# Altium footprint library PcbLib1.PcbLib: 38 footprints (part 1 of 3)
Each footprint in its own frame and in the unit in brackets; x right, y up, seen from the top. Pads: shape width x height; smd on the part's side, far side on the other; paste and mask are expansions set on the pad; w line width, h text height; cw(c..) or ccw(c..) is an arc to the next point about the centre after c.
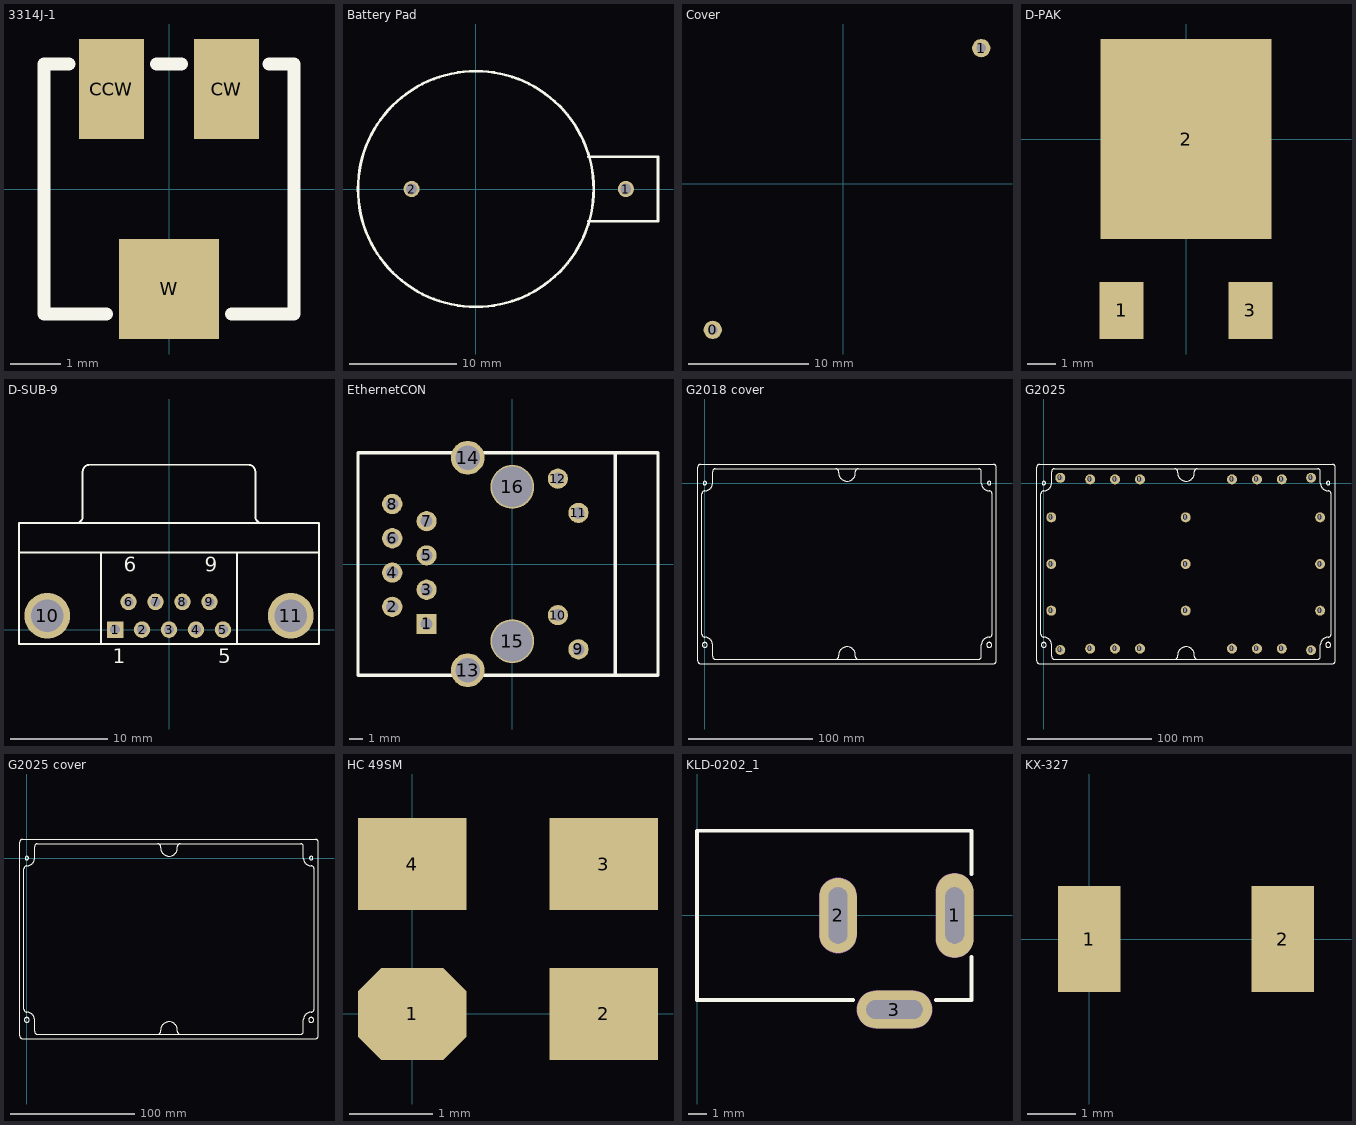
[diagram p0: the footprints below, top view; thin cyan lines are the x and y axes]

## 3314J-1 [mm] "Trimming Potentiometer"
pads (3):
  rect 1.3x2 smd: CCW(-1.15,2) CW(1.15,2)
  rect 2x2 smd: W(0,-2)
Top Overlay:
  lines w0.254: -2,2.5 -2.5,2.5 -2.5,-2.5 -1.25,-2.5 ; -0.25,2.5 0.25,2.5 ; 1.25,-2.5 2.5,-2.5 2.5,2.5 2,2.5
3D body: height 2.55, standoff 0, extent -1.2,-1.198 1.191,1.198
3D body: height 2.5, standoff 0.3, extent -2.225,-2.25 2.275,2.25

## Battery Pad [mm]
pads (2):
  round 1.5 hole 1: 1(14,0) 2(-6,0)
Top Overlay:
  circle w0.254: c0,0 r11
  lines w0.254: 10.5,-3 17,-3 17,3 10.5,3
3D body: height 6, standoff 5, extent -4,-1 15,1
3D body: height 4, standoff 2, extent -10.913,-10.978 11,10.978
3D body: height 5, standoff 0, extent 10,-3 17,3
3D body: height 5.5, standoff 4, extent -9.961,-9.961 9.961,10

## Cover [mil]
pads (2):
  round 60 hole 30: 0(-429.13,-480.31) 1(452.76,444.88)
3D body: height 181.1, standoff 177.17, extent -625.98,-484.25 645.67,452.76
3D body: height 165.35, standoff 3.94, extent -625.98,-460.63 -614.17,425.2
3D body: height 137.8, standoff 3.94, extent 633.86,-460.63 645.67,425.2
3D body: height 165.35, standoff 3.94, extent -625.98,438.98 645.67,450.79
3D body: height 165.35, standoff 3.94, extent -625.98,-486.22 645.67,-474.41

## CPU_Unit [mil]
3D body: height 669.29, standoff 259.84, extent 0,0 100,600
3D body: height 669.29, standoff 259.84, extent 0,4000 100,5039.37
3D body: height 2755.91, standoff 669.29, extent 0,0 100,5039.37

## D-PAK [mm]
pads (3):
  rect 1.54x2 smd: 1(-2.25,-6) 3(2.25,-6)
  rect 6x7 smd: 2(0,0)
3D body: height 2.38, standoff 0, extent -3,-3.5 3,2.5

## D-SUB-9 [mm] "Connector"
pads (11):
  rect 1.7x1.7 hole 1: 1(-5.54,0)
  round 1.7 hole 1: 2(-2.77,0) 3(0,0) 4(2.77,0) 5(5.54,0) 6(-4.155,2.84) 7(-1.385,2.84) 8(1.385,2.84) 9(4.155,2.84)
  round 4.7 hole 3.3: 10(-12.495,1.42) 11(12.495,1.42)
Top Overlay:
  lines w0.2: -15.4,7.92 15.4,7.92 ; -9.56,10.925 ccw(c-9.56,11.62) -8.865,11.62 -8.865,16.22 ; -8.86,16.225 cw(c-8.165,16.225) -8.165,16.92 8.165,16.92 cw(c8.165,16.225) 8.86,16.225 ; -7,-1.48 -7,7.92 ; 7,-1.48 7,7.92 ; 8.865,16.22 8.865,11.62 ccw(c9.56,11.62) 9.56,10.925 ; -15.4,-1.48 -15.4,10.92 15.4,10.92 15.4,-1.48 -15.4,-1.48
  text "1" at -5.79,-3.455 h1.5
  text "5" at 5.04,-3.455 h1.5
  text "9" at 3.655,5.945 h1.5
  text "6" at -4.655,5.945 h1.5
3D body: height 4.94, standoff 1.4, extent 10.926,6.858 14.474,17.018
3D body: height 4.94, standoff 1.4, extent -14.217,6.858 -10.668,17.018
3D body: height 5.06, standoff 1.27, extent 5.087,10.922 8.889,17.018
3D body: height 5.06, standoff 1.27, extent -8.883,10.922 -5.081,17.018
3D body: height 5.08, standoff 1.27, extent -6.858,10.922 6.988,17.018
3D body: height 1.4, standoff 0.1, extent 9.906,-1.011 14.966,4.059
3D body: height 1.4, standoff 0.1, extent -14.986,-1.011 -9.926,4.059
3D body: height 6.35, standoff 0.13, extent -15.494,7.874 15.494,10.922
3D body: height 1.27, standoff 0.13, extent -15.494,-1.524 15.494,7.874
3D body: height 6.35, standoff 1.27, extent -7.112,-1.524 7.112,7.874

## Driver [mil]
3D body: height 669.29, standoff 259.84, extent 0,0 100,900
3D body: height 669.29, standoff 259.84, extent 0,2500 100,3400
3D body: height 2755.91, standoff 669.29, extent 0,0 100,3400

## EthernetCON [mm] "Ethernet connector w/two LEDs"
pads (16):
  rect 1.5x1.5 hole 0.9: 1(-6.35,-4.445)
  round 1.5 hole 0.9: 2(-8.89,-3.175) 3(-6.35,-1.905) 4(-8.89,-0.635) 5(-6.35,0.635) 6(-8.89,1.905) 7(-6.35,3.175) 8(-8.89,4.445) 9(4.902,-6.325) 10(3.378,-3.785) 11(4.902,3.785) 12(3.378,6.325)
  round 2.5 hole 1.8: 13(-3.302,-7.874) 14(-3.302,7.874)
  round 3.25 hole 3 unplated: 15(0,-5.715) 16(0,5.715)
Top Overlay:
  lines w0.254: 7.62,-8.255 7.62,8.255 ; -11.43,-8.255 -11.43,8.255 10.795,8.255 10.795,-8.255 -11.43,-8.255
3D body: height 13.97, standoff 0.25, extent -11.4,-8.255 10.83,-7
3D body: height 2.25, standoff 0.25, extent 2.54,-8.255 10.88,-2.5
3D body: height 13.97, standoff 11.97, extent -11.43,-8.255 10.83,8.255
3D body: height 2.25, standoff 0.25, extent 2.54,2.54 10.795,8.255
3D body: height 13.97, standoff 0.25, extent -11.43,-8.255 -10.033,8.255
3D body: height 1.25, standoff 0.5, extent 5.5,-6.75 11,-3.25
3D body: height 1.25, standoff 0.5, extent 5.5,3.25 11,6.75
3D body: height 13.97, standoff 0.25, extent -11.43,7 10.8,8.255
3D body: height 1.25, standoff 0.25, extent -10.16,-6.985 10.541,6.985

## G2018 cover [mil]
Top Overlay:
  circle w10: c0,0 r55.68
  circle w10: c0,-5118.11 r78.74
  circle w10: c8996.06,-5118.11 r78.74
  circle w10: c8996.06,0 r55.68
  lines w19.68: 4143.7,-5570.87 ccw(c4143.7,-5482.28) 4232.28,-5482.28 ; 4143.7,452.76 cw(c4143.7,364.17) 4232.28,364.17 ; 4234.25,-5482.28 4234.25,-5442.91 cw(c4500,-5442.91) 4765.75,-5442.91 4765.75,-5482.28 ; 4234.25,324.8 ccw(c4500,324.8) 4765.75,324.8 ; 4234.25,326.77 4234.25,364.17 ; 4763.78,-5482.28 ccw(c4852.36,-5482.28) 4852.36,-5570.87 ; 4763.78,318.9 4763.78,364.17 cw(c4852.36,364.17) 4852.36,452.76 ; -226.38,-5620.08 ccw(c-137.8,-5620.08) -137.8,-5708.66 9133.86,-5708.66 ccw(c9133.86,-5620.08) 9222.44,-5620.08 9222.44,501.97 ccw(c9133.86,501.97) 9133.86,590.55 -137.8,590.55 ccw(c-137.8,501.97) -226.38,501.97 -226.38,-5620.08 ; -88.58,-4783.46 ccw(c0,-4783.46) 0,-4872.05 cw(c0,-5118.11) 246.06,-5118.11 246.06,-5482.28 ccw(c334.65,-5482.28) 334.65,-5570.87 8661.42,-5570.87 ccw(c8661.42,-5482.28) 8750,-5482.28 8750,-5118.11 cw(c8996.06,-5118.11) 8996.06,-4872.05 ccw(c8996.06,-4783.46) 9084.65,-4783.46 9084.65,-334.65 ccw(c8996.06,-334.65) 8996.06,-246.06 cw(c8996.06,0) 8750,0 8750,364.17 ccw(c8661.42,364.17) 8661.42,452.76 334.65,452.76 ccw(c334.65,364.17) 246.06,364.17 246.06,0 cw(c0,0) 0,-246.06 ccw(c0,-334.65) -88.58,-334.65 -88.58,-4783.46
3D body: height 3188.98, standoff 3031.5, extent -224.41,-5708.66 9224.41,590.55
3D body: height 3031.5, standoff 2637.8, extent -224.41,452.76 9220.47,590.55
3D body: height 3031.5, standoff 2637.8, extent -224.41,-5708.66 9220.47,-5570.87
3D body: height 3070.87, standoff 2637.8, extent 4234.38,60.1 4763.78,590.55
3D body: height 3070.87, standoff 2637.8, extent 4236.22,-5708.66 4765.62,-5178.21
3D body: height 3070.87, standoff 2637.8, extent -235.25,-5363.2 254.94,-4872.05
3D body: height 3070.87, standoff 2637.8, extent -225.45,-246.06 245.13,225.45
3D body: height 3070.87, standoff 2637.8, extent 8734.22,-266.75 9224.41,224.41
3D body: height 3070.87, standoff 2637.8, extent 8734.22,-5333.67 9224.41,-4842.52
3D body: height 3031.5, standoff 2637.8, extent 9086.61,-5570.87 9220.47,452.76
3D body: height 3031.5, standoff 2637.8, extent -224.41,-5570.87 -90.55,452.76
3D body: height 3031.5, standoff 2637.8, extent -108.27,-39.37 246.06,452.76
3D body: height 3031.5, standoff 2637.8, extent 8732.28,-39.37 9086.61,452.76
3D body: height 3031.5, standoff 2637.8, extent 8732.28,-5570.87 9086.61,-5078.74
3D body: height 3031.5, standoff 2637.8, extent -98.43,-5570.87 255.91,-5078.74
3D body: height 3031.5, standoff 2637.8, extent 4236.22,-5570.87 4765.62,-5443.44
3D body: height 3031.5, standoff 2637.8, extent 4230.44,321.39 4759.84,448.82
3D body: height 3188.98, standoff 3031.5, extent -224.41,-5708.66 9224.41,590.55

## G2025 [mm]
pads (25):
  round 8 hole 4: 0(6,-102.5) 0(6,-65) 0(6,-27.5) 0(13.25,-134) 0(13.25,4.25) 0(37.25,-133) 0(37.25,3) 0(57.25,-133) 0(57.25,3) 0(77.25,-133) 0(77.25,3) 0(114,-102.5) 0(114,-65) 0(114,-27.5) 0(151.25,-133) 0(151.25,3) 0(171.25,-133) 0(171.25,3) 0(191.25,-133) 0(191.25,3) 0(214.75,-134.25) 0(214.75,4.25) 0(222,-102.5) 0(222,-65) 0(222,-27.5)
Top Overlay:
  circle w0.254: c0,0 r1.414
  circle w0.254: c0,-130 r2
  circle w0.254: c228.5,-130 r2
  circle w0.254: c228.5,0 r1.414
  lines w0.5: 105.25,-141.5 ccw(c105.25,-139.25) 107.5,-139.25 ; 105.25,11.5 cw(c105.25,9.25) 107.5,9.25 ; 107.55,-139.25 107.55,-138.25 cw(c114.3,-138.25) 121.05,-138.25 121.05,-139.25 ; 107.55,8.25 ccw(c114.3,8.25) 121.05,8.25 ; 107.55,8.3 107.55,9.25 ; 121,-139.25 ccw(c123.25,-139.25) 123.25,-141.5 ; 121,8.1 121,9.25 cw(c123.25,9.25) 123.25,11.5 ; -5.75,-142.75 ccw(c-3.5,-142.75) -3.5,-145 232,-145 ccw(c232,-142.75) 234.25,-142.75 234.25,12.75 ccw(c232,12.75) 232,15 -3.5,15 ccw(c-3.5,12.75) -5.75,12.75 -5.75,-142.75 ; -2.25,-121.5 ccw(c0,-121.5) 0,-123.75 cw(c0,-130) 6.25,-130 6.25,-139.25 ccw(c8.5,-139.25) 8.5,-141.5 220,-141.5 ccw(c220,-139.25) 222.25,-139.25 222.25,-130 cw(c228.5,-130) 228.5,-123.75 ccw(c228.5,-121.5) 230.75,-121.5 230.75,-8.5 ccw(c228.5,-8.5) 228.5,-6.25 cw(c228.5,0) 222.25,0 222.25,9.25 ccw(c220,9.25) 220,11.5 8.5,11.5 ccw(c8.5,9.25) 6.25,9.25 6.25,0 cw(c0,0) 0,-6.25 ccw(c0,-8.5) -2.25,-8.5 -2.25,-121.5
3D body: height 66, standoff -5, extent 107.453,8.163 120.9,11.4
3D body: height 66, standoff -5, extent 107.6,-141.5 121.047,-138.263
3D body: height 66, standoff -5, extent -2.5,-141.5 6.5,-129
3D body: height 66, standoff -5, extent 221.8,-141.5 230.8,-129
3D body: height 66, standoff -5, extent 221.8,-1 230.8,11.5
3D body: height 66, standoff -5, extent -2.75,-1 6.25,11.5
3D body: height 66, standoff -5, extent -5.7,-141.5 -2.3,11.5
3D body: height 66, standoff -5, extent 230.8,-141.5 234.2,11.5
3D body: height 66, standoff -9, extent 221.849,-135.475 234.3,-123
3D body: height 66, standoff -9, extent 221.849,-6.775 234.3,5.7
3D body: height 66, standoff -9, extent -5.726,-6.25 6.226,5.726
3D body: height 66, standoff -9, extent -5.975,-136.225 6.475,-123.75
3D body: height 66, standoff -9, extent 107.6,-145 121.047,-131.527
3D body: height 66, standoff -9, extent 107.553,1.527 121,15
3D body: height 66, standoff -5, extent -5.7,-145 234.2,-141.5
3D body: height 66, standoff -5, extent -5.7,11.5 234.2,15
3D body: height -5, standoff -9, extent -5.7,-145 234.3,15

## G2025 cover [mil]
Top Overlay:
  circle w10: c8996.06,0 r55.68
  circle w10: c8996.06,-5118.11 r78.74
  circle w10: c0,-5118.11 r78.74
  circle w10: c0,0 r55.68
  lines w19.68: 4143.7,-5570.87 ccw(c4143.7,-5482.28) 4232.28,-5482.28 ; 4143.7,452.76 cw(c4143.7,364.17) 4232.28,364.17 ; 4234.25,-5482.28 4234.25,-5442.91 cw(c4500,-5442.91) 4765.75,-5442.91 4765.75,-5482.28 ; 4234.25,324.8 ccw(c4500,324.8) 4765.75,324.8 ; 4234.25,326.77 4234.25,364.17 ; 4763.78,-5482.28 ccw(c4852.36,-5482.28) 4852.36,-5570.87 ; 4763.78,318.9 4763.78,364.17 cw(c4852.36,364.17) 4852.36,452.76 ; -226.38,-5620.08 ccw(c-137.8,-5620.08) -137.8,-5708.66 9133.86,-5708.66 ccw(c9133.86,-5620.08) 9222.44,-5620.08 9222.44,501.97 ccw(c9133.86,501.97) 9133.86,590.55 -137.8,590.55 ccw(c-137.8,501.97) -226.38,501.97 -226.38,-5620.08 ; -88.58,-4783.46 ccw(c0,-4783.46) 0,-4872.05 cw(c0,-5118.11) 246.06,-5118.11 246.06,-5482.28 ccw(c334.65,-5482.28) 334.65,-5570.87 8661.42,-5570.87 ccw(c8661.42,-5482.28) 8750,-5482.28 8750,-5118.11 cw(c8996.06,-5118.11) 8996.06,-4872.05 ccw(c8996.06,-4783.46) 9084.65,-4783.46 9084.65,-334.65 ccw(c8996.06,-334.65) 8996.06,-246.06 cw(c8996.06,0) 8750,0 8750,364.17 ccw(c8661.42,364.17) 8661.42,452.76 334.65,452.76 ccw(c334.65,364.17) 246.06,364.17 246.06,0 cw(c0,0) 0,-246.06 ccw(c0,-334.65) -88.58,-334.65 -88.58,-4783.46
3D body: height 4370.08, standoff 4212.6, extent -224.41,-5708.66 9224.41,590.55
3D body: height 4370.08, standoff 2637.8, extent -224.41,452.76 9220.47,590.55
3D body: height 4370.08, standoff 2637.8, extent -224.41,-5708.66 9220.47,-5570.87
3D body: height 4212.6, standoff 2637.8, extent 4234.38,60.1 4763.78,590.55
3D body: height 4212.6, standoff 2637.8, extent 4236.22,-5708.66 4765.62,-5178.21
3D body: height 4212.6, standoff 2637.8, extent -235.25,-5363.2 254.94,-4872.05
3D body: height 4212.6, standoff 2637.8, extent -225.45,-246.06 245.13,225.45
3D body: height 4212.6, standoff 2637.8, extent 8734.22,-266.75 9224.41,224.41
3D body: height 4212.6, standoff 2637.8, extent 8734.22,-5333.67 9224.41,-4842.52
3D body: height 4370.08, standoff 2637.8, extent 9086.61,-5570.87 9220.47,452.76
3D body: height 4370.08, standoff 2637.8, extent -224.41,-5570.87 -90.55,452.76
3D body: height 4370.08, standoff 2637.8, extent -108.27,-39.37 246.06,452.76
3D body: height 4370.08, standoff 2637.8, extent 8732.28,-39.37 9086.61,452.76
3D body: height 4370.08, standoff 2637.8, extent 8732.28,-5570.87 9086.61,-5078.74
3D body: height 4370.08, standoff 2637.8, extent -98.43,-5570.87 255.91,-5078.74
3D body: height 4370.08, standoff 2637.8, extent 4236.22,-5570.87 4765.62,-5443.44
3D body: height 4370.08, standoff 2637.8, extent 4230.44,321.39 4759.84,448.82

## HC 49SM [mm] "Кварцевый резонатор"
pads (4):
  oct 1.3x1.1 smd: 1(0,0)
  rect 1.3x1.1 smd: 2(2.3,0) 3(2.3,1.8) 4(0,1.8)
3D body: height 1.2, standoff 0, extent -0.45,-0.375 2.75,2.125

## HTC-200-24 [mil] "Power supply 24V 8.3A 200W"
3D body: height 1968.5, standoff 0, extent 0,0 8976.38,4527.56

## HTC-200-24 up [mil] "Power supply 24V 8.3A 200W"
3D body: height 4448.82, standoff 0, extent 0,0 8976.38,1968.5

## KLD-0202_1 [mm] "DC Power Jack, 2.5mm, KLD Series, PCB Mount"
pads (3):
  oval 2x4.5 hole 1 slot 3 at 90 deg: 1(13.7,0)
  oval 2x4 hole 1 slot 3 at 90 deg: 2(7.5,0)
  oval 4x2 hole 1 slot 3 at 0 deg: 3(10.5,-5)
Top Overlay:
  lines w0.2: 8.3,-4.5 0,-4.5 0,4.5 14.6,4.5 14.6,2.2 ; 12.7,-4.5 14.6,-4.5 14.6,-2.2
Mechanical 1:
  lines w1: 7.5,-1 7.5,1 ; 9.5,-5 11.5,-5 ; 13.7,-1.25 13.7,1.25
Mechanical 2:
  lines w2.016: 7.5,-1 7.5,1 ; 9.5,-5 11.5,-5 ; 13.7,-1.25 13.7,1.25

## KX-327 [mm] "Кварцевый резонатор"
pads (2):
  rect 1.3x2.2 smd: 1(0,0) 2(4,0)
3D body: height 0.96, standoff 0, extent -0.475,-0.913 4.475,0.913